# EAGLE library part STM32F302_303VXY (library STM32F3xx)
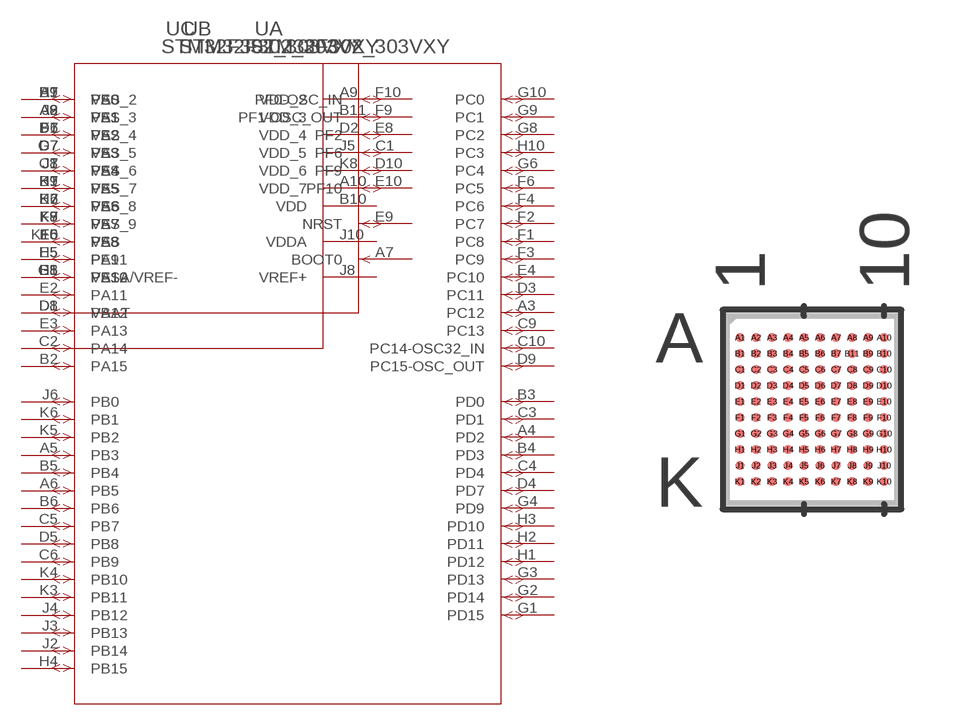
[diagram p10: symbol with the pads of WLCSP100; footprint WLCSP100]

Designator prefix U; gates A=STM32F302_303VXY_1 B=STM32F302_303VXY_00 C=STM32F302_303VXY

## STM32F302_303VXY (COPYRIGHT: Copyright C 2016 Accelerated Designs. All rights reserved; MANUFACTURER_PART_NUMBER: stm32f302_303vxy; VENDOR: STMicroelectronics)  [WLCSP100]
A1  C:VSS_2  pwr
A2  C:VSS_3  pwr
A3  A:PC12
A4  A:PD2
A5  A:PB3
A6  A:PB5
A7  B:BOOT0  in
A8  B:PE1
A9  C:VDD_2  pwr
A10  C:VDD_7  pwr
B1  C:VSS_4  pwr
B2  A:PA15
B3  A:PD0
B4  A:PD3
B5  A:PB4
B6  A:PB6
B7  B:PE0
B9  B:PE5
B10  C:VDD  pwr
B11  C:VDD_3  pas
C1  B:PF6
C2  A:PA14
C3  A:PD1
C4  A:PD4
C5  A:PB7
C6  A:PB9
C7  C:VSS_5  pwr
C8  B:PE4
C9  A:PC13
C10  A:PC14-OSC32_IN
D1  A:PA12
D2  C:VDD_4  pwr
D3  A:PC11
D4  A:PD7
D5  A:PB8
D6  B:PE2
D7  B:PE3
D8  C:VBAT  pwr
D9  A:PC15-OSC_OUT
D10  B:PF9
E1  A:PA10
E2  A:PA11
E3  A:PA13
E4  A:PC10
E5  A:PA9
E6  B:PE8
E7  B:PE6
E8  B:PF2
E9  B:NRST
E10  B:PF10
F1  A:PC8
F2  A:PC7
F3  A:PC9
F4  A:PC6
F5  A:PA8
F6  A:PC5
F7  A:PA2
F8  B:PE7
F9  B:PF1-OSC_OUT
F10  B:PF0-OSC_IN
G1  A:PD15
G2  A:PD14
G3  A:PD13
G4  A:PD9
G5  B:PE12
G6  A:PC4
G7  A:PA3
G8  A:PC2
G9  A:PC1
G10  A:PC0
H1  A:PD12
H2  A:PD11
H3  A:PD10
H4  A:PB15
H5  B:PE11
H6  A:PA6
H7  A:PA5
H8  C:VSSA/VREF-  pwr
H9  A:PA0
H10  A:PC3
J1  C:VSS_6  pwr
J2  A:PB14
J3  A:PB13
J4  A:PB12
J5  C:VDD_5  pwr
J6  A:PB0
J7  A:PA4
J8  C:VREF+  pwr
J9  A:PA1
J10  C:VDDA  pwr
K1  C:VSS_7  pwr
K2  C:VSS_8  pwr
K3  A:PB11
K4  A:PB10
K5  A:PB2
K6  A:PB1
K7  A:PA7
K8  C:VDD_6  pwr
K9  C:VSS_9  pwr
K10  C:VSS  pwr

## Footprint WLCSP100 (pad centres in mm)
smd 0.229 x 0.229: A1 -1.8,1.8; A2 -1.4,1.8; A3 -1,1.8; A4 -0.6,1.8; A5 -0.2,1.8; A6 0.2,1.8; A7 0.6,1.8; A8 1,1.8; A9 1.4,1.8; A10 1.8,1.8; B1 -1.8,1.4; B2 -1.4,1.4; B3 -1,1.4; B4 -0.6,1.4; B5 -0.2,1.4; B6 0.2,1.4; B7 0.6,1.4; B9 1.4,1.4; B10 1.8,1.4; B11 1,1.4; C1 -1.8,1; C2 -1.4,1; C3 -1,1; C4 -0.6,1; C5 -0.2,1; C6 0.2,1; C7 0.6,1; C8 1,1; C9 1.4,1; C10 1.8,1; D1 -1.8,0.6; D2 -1.4,0.6; D3 -1,0.6; D4 -0.6,0.6; D5 -0.2,0.6; D6 0.2,0.6; D7 0.6,0.6; D8 1,0.6; D9 1.4,0.6; D10 1.8,0.6; E1 -1.8,0.2; E2 -1.4,0.2; E3 -1,0.2; E4 -0.6,0.2; E5 -0.2,0.2; E6 0.2,0.2; E7 0.6,0.2; E8 1,0.2; E9 1.4,0.2; E10 1.8,0.2; F1 -1.8,-0.2; F2 -1.4,-0.2; F3 -1,-0.2; F4 -0.6,-0.2; F5 -0.2,-0.2; F6 0.2,-0.2; F7 0.6,-0.2; F8 1,-0.2; F9 1.4,-0.2; F10 1.8,-0.2; G1 -1.8,-0.6; G2 -1.4,-0.6; G3 -1,-0.6; G4 -0.6,-0.6; G5 -0.2,-0.6; G6 0.2,-0.6; G7 0.6,-0.6; G8 1,-0.6; G9 1.4,-0.6; G10 1.8,-0.6; H1 -1.8,-1; H2 -1.4,-1; H3 -1,-1; H4 -0.6,-1; H5 -0.2,-1; H6 0.2,-1; H7 0.6,-1; H8 1,-1; H9 1.4,-1; H10 1.8,-1; J1 -1.8,-1.4; J2 -1.4,-1.4; J3 -1,-1.4; J4 -0.6,-1.4; J5 -0.2,-1.4; J6 0.2,-1.4; J7 0.6,-1.4; J8 1,-1.4; J9 1.4,-1.4; J10 1.8,-1.4; K1 -1.8,-1.8; K2 -1.4,-1.8; K3 -1,-1.8; K4 -0.6,-1.8; K5 -0.2,-1.8; K6 0.2,-1.8; K7 0.6,-1.8; K8 1,-1.8; K9 1.4,-1.8; K10 1.8,-1.8